# Altium footprint library TSSOP-16 EPV.PcbLib: 1 footprints
Each footprint in its own frame and in the unit in brackets; x right, y up, seen from the top. Pads: shape width x height; smd on the part's side, far side on the other; paste and mask are expansions set on the pad; w line width, h text height; cw(c..) or ccw(c..) is an arc to the next point about the centre after c.
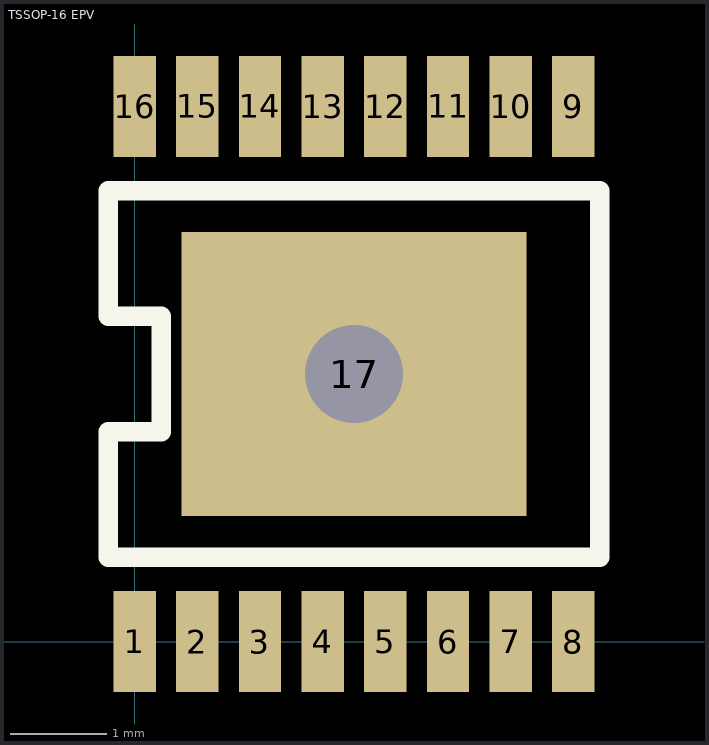
[diagram p0: the footprint, top view; thin cyan lines are the x and y axes]

## TSSOP-16 EPV [mm]
pads (17):
  rect 0.44x1.05 smd: 1(0,0) 2(0.65,0) 3(1.3,0) 4(1.95,0) 5(2.6,0) 6(3.25,0) 7(3.9,0) 8(4.55,0) 9(4.55,5.55) 10(3.9,5.55) 11(3.25,5.55) 12(2.6,5.55) 13(1.95,5.55) 14(1.3,5.55) 15(0.65,5.55) 16(0,5.55)
  rect 3.58x2.95 hole 1.016: 17(2.275,2.775)
TopOverlay:
  lines w0.203: -0.275,0.875 -0.275,2.175 0.275,2.175 0.275,3.375 -0.275,3.375 -0.275,4.675 4.825,4.675 4.825,0.875 -0.275,0.875
TopPaste:
  rectangle: 0.484,1.295 4.066,4.25